# Altium footprint library Chip1210.PcbLib: 1 footprints
Each footprint in its own frame and in the unit in brackets; x right, y up, seen from the top. Pads: shape width x height; smd on the part's side, far side on the other; paste and mask are expansions set on the pad; w line width, h text height; cw(c..) or ccw(c..) is an arc to the next point about the centre after c.
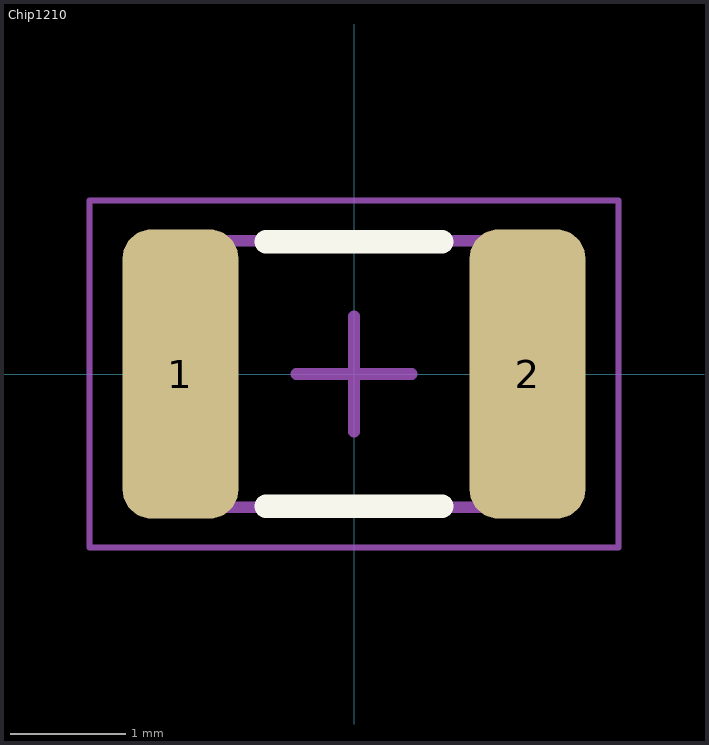
[diagram p0: the footprint, top view; thin cyan lines are the x and y axes]

## Chip1210 [mm] "Chip Resistor, 2-Leads, Body 3.20x2.50mm, IPC Medium Density"
height 0.6
pads (2):
  rrect50% 1x2.5 smd: 1(-1.5,0) 2(1.5,0)
Top Overlay:
  lines w0.2: -0.762,-1.143 0.762,-1.143 ; -0.762,1.143 0.762,1.143
Mechanical 13:
  lines w0.1: -1.5,-1.15 -1.5,1.15 1.5,1.15 1.5,-1.15 -1.5,-1.15
Mechanical 15:
  lines w0.05: -2.286,-1.5 -2.286,1.5 2.286,1.5 2.286,-1.5 -2.286,-1.5
  lines w0.1: -0.5,0 0.5,0 ; 0,-0.5 0,0.5
Mechanical 17:
  lines w0.05: -2.286,-1.5 2.286,-1.5 2.286,1.5 -2.286,1.5 -2.286,-1.5
  text ".Designator" at -2.127,-0.623 h1
Mechanical 19:
  lines w0.05: -2.286,-1.5 2.286,-1.5 2.286,1.5 -2.286,1.5 -2.286,-1.5
  text ".Comment" at -2.127,-0.623 h1
3D body: height 0.6, standoff 0, extent -1.05,-1.15 1.05,1.15
3D body: height 0.6, standoff 0, extent -1.5,-1.15 -1.05,1.15
3D body: height 0.6, standoff 0, extent 1.05,-1.15 1.5,1.15